# EAGLE library part CON_60 (library fc-nes)
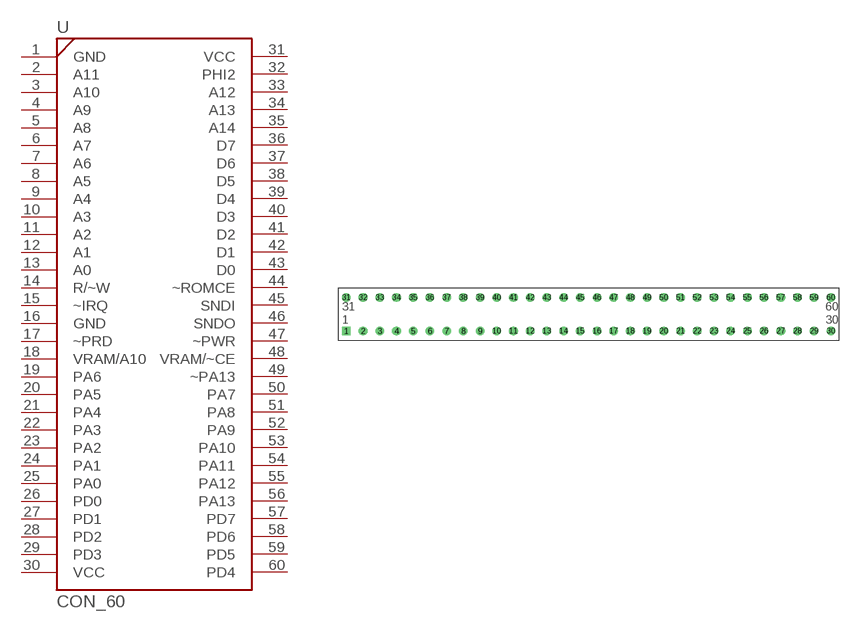
[diagram p0: symbol with the pads of CON_60; footprint CON_60]

Designator prefix -

## CON_60  [CON_60]
1  GND  sup
2  A11  out
3  A10  out
4  A9  out
5  A8  out
6  A7  out
7  A6  out
8  A5  out
9  A4  out
10  A3  out
11  A2  out
12  A1  out
13  A0  out
14  R/~W  out
15  ~IRQ
16  GND  sup
17  ~PRD  out
18  VRAM/A10  in
19  PA6  out
20  PA5  out
21  PA4  out
22  PA3  out
23  PA2  out
24  PA1  out
25  PA0  out
26  PD0
27  PD1
28  PD2
29  PD3
30  VCC  sup
31  VCC  sup
32  PHI2  out
33  A12  out
34  A13  out
35  A14  out
36  D7  out
37  D6  out
38  D5  out
39  D4  out
40  D3  out
41  D2  out
42  D1  out
43  D0  out
44  ~ROMCE  out
45  SNDI  out
46  SNDO  in
47  ~PWR  out
48  VRAM/~CE  in
49  ~PA13  out
50  PA7  out
51  PA8  out
52  PA9  out
53  PA10  out
54  PA11  out
55  PA12  out
56  PA13  out
57  PD7
58  PD6
59  PD5
60  PD4

## Footprint CON_60 (pad centres in mm)
drill 0.8 square: 1 -36.83,-2.54
drill 0.8: 2 -34.29,-2.54; 3 -31.75,-2.54; 4 -29.21,-2.54; 5 -26.67,-2.54; 6 -24.13,-2.54; 7 -21.59,-2.54; 8 -19.05,-2.54; 9 -16.51,-2.54; 10 -13.97,-2.54; 11 -11.43,-2.54; 12 -8.89,-2.54; 13 -6.35,-2.54; 14 -3.81,-2.54; 15 -1.27,-2.54; 16 1.27,-2.54; 17 3.81,-2.54; 18 6.35,-2.54; 19 8.89,-2.54; 20 11.43,-2.54; 21 13.97,-2.54; 22 16.51,-2.54; 23 19.05,-2.54; 24 21.59,-2.54; 25 24.13,-2.54; 26 26.67,-2.54; 27 29.21,-2.54; 28 31.75,-2.54; 29 34.29,-2.54; 30 36.83,-2.54; 31 -36.83,2.54; 32 -34.29,2.54; 33 -31.75,2.54; 34 -29.21,2.54; 35 -26.67,2.54; 36 -24.13,2.54; 37 -21.59,2.54; 38 -19.05,2.54; 39 -16.51,2.54; 40 -13.97,2.54; 41 -11.43,2.54; 42 -8.89,2.54; 43 -6.35,2.54; 44 -3.81,2.54; 45 -1.27,2.54; 46 1.27,2.54; 47 3.81,2.54; 48 6.35,2.54; 49 8.89,2.54; 50 11.43,2.54; 51 13.97,2.54; 52 16.51,2.54; 53 19.05,2.54; 54 21.59,2.54; 55 24.13,2.54; 56 26.67,2.54; 57 29.21,2.54; 58 31.75,2.54; 59 34.29,2.54; 60 36.83,2.54